# EAGLE library part L104G (library l104g)
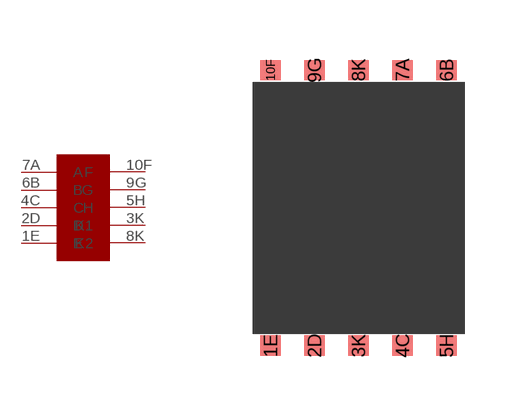
[diagram p0: symbol with the pads of L104G; footprint L104G]

Designator prefix -

## L104G  [L104G]
1E  E
2D  D
3K  K1
4C  C
5H  H
6B  B
7A  A
8K  K2
9G  G
10F  F

## Footprint L104G (pad centres in mm)
L104G USSR made 7 segment display. Common cathodes.
smd 0.508 x 0.508: 1E 0.3,-0.3; 2D 1.4,-0.3; 3K 2.5,-0.3; 4C 3.6,-0.3; 5H 4.7,-0.3; 6B 4.7,6.6; 7A 3.6,6.6; 8K 2.5,6.6; 9G 1.4,6.6; 10F 0.3,6.6